# Altium integrated library 1uf.IntLib: 1 symbol
Pins are listed as number, name and electrical type; pins without a type are passive.

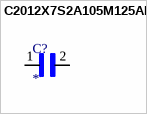
[diagram p0: symbol C2012X7S2A105M125AB]

## C2012X7S2A105M125AB
designator C?
1 ÂµF Â±20% 100V Ceramic Capacitor X7S 0805 (2012 Metric); MF: TDK; MP: C2012X7S2A105M125AB; Package: 2012 TDK; Purchase-URL: https://pricing.snapeda.com/search/part/C2012X7S2A105M125AB/?ref=eda; Value: *; Availability: In Stock; SnapEDA_Link: https://www.snapeda.com/parts/C2012X7S2A105M125AB/TDK/view-part/?ref=snap; Price: None; Check_prices: https://www.snapeda.com/parts/C2012X7S2A105M125AB/TDK/view-part/?ref=eda
footprint CAPC2012X145N
pins: 1, 2